# Altium footprint library ASI_CAN_Conv.PcbLib: 30 footprints (part 1 of 2)
Each footprint in its own frame and in the unit in brackets; x right, y up, seen from the top. Pads: shape width x height; smd on the part's side, far side on the other; paste and mask are expansions set on the pad; w line width, h text height; cw(c..) or ccw(c..) is an arc to the next point about the centre after c.
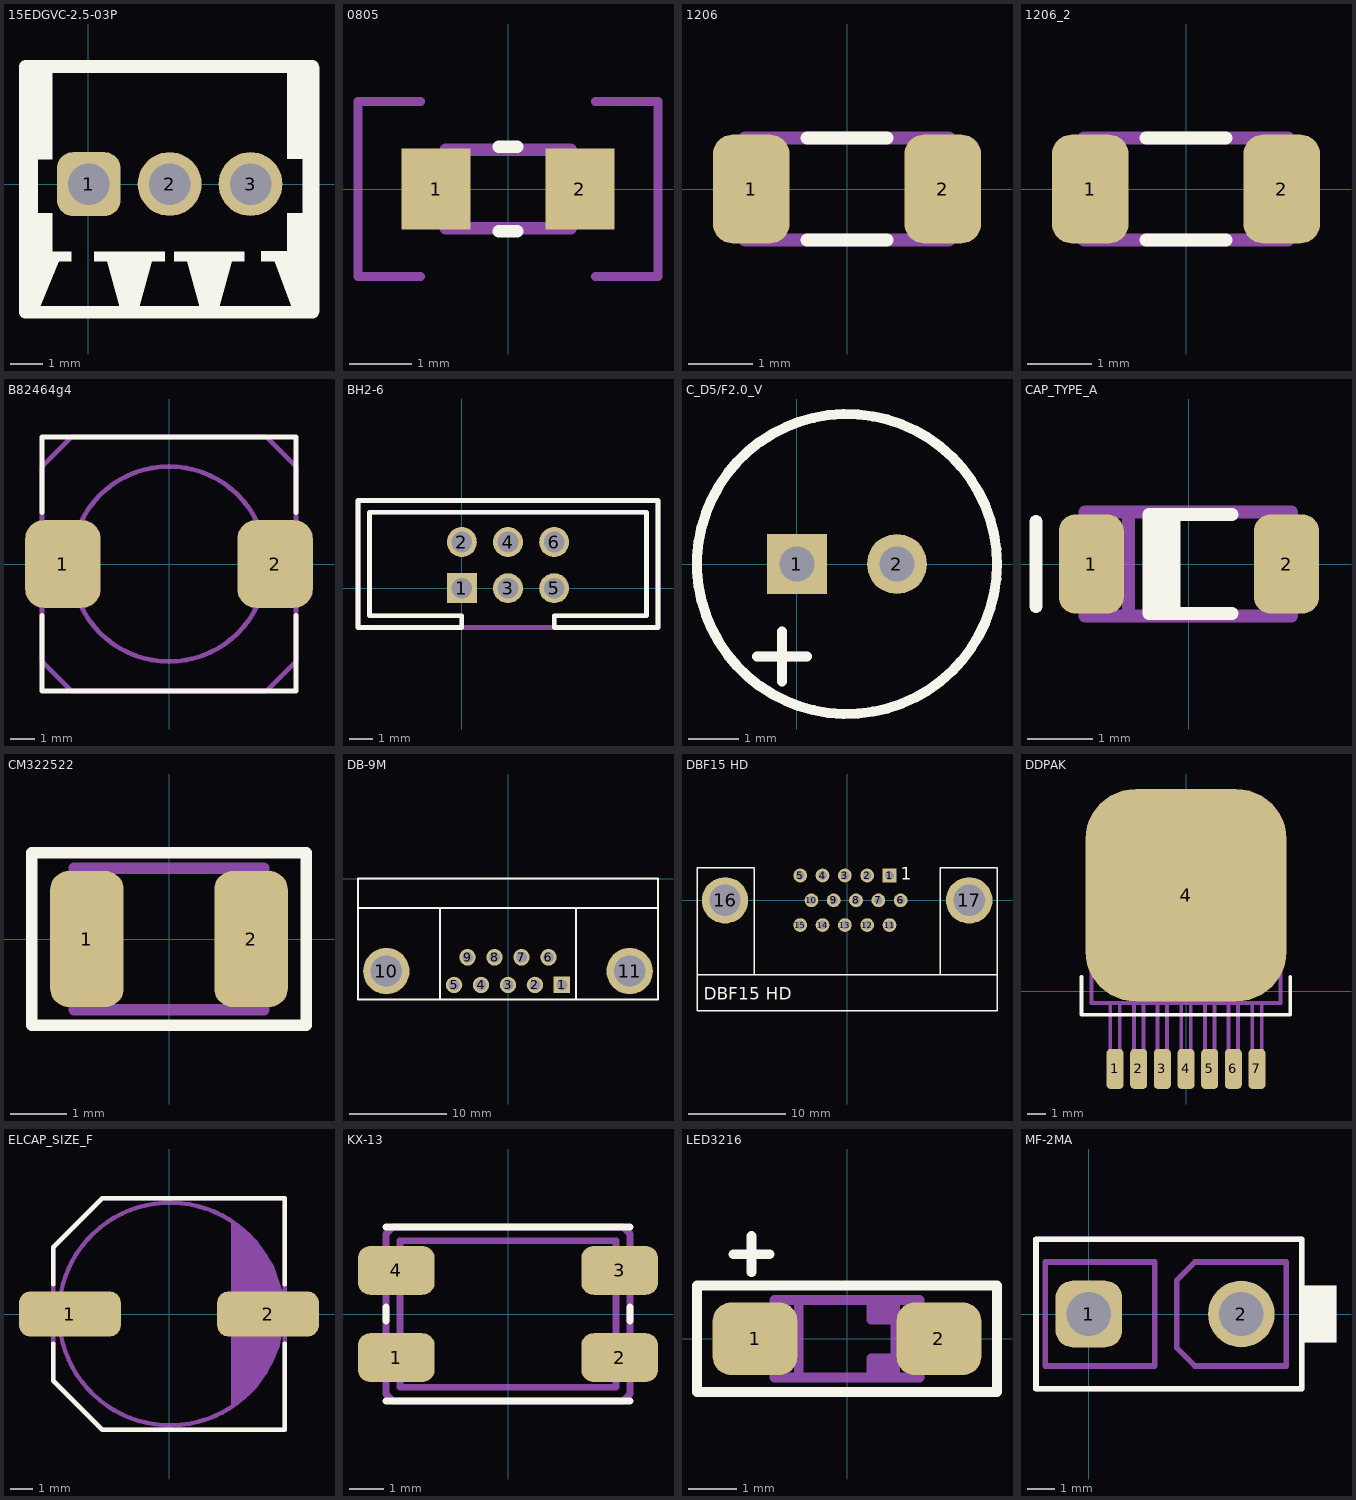
[diagram p0: the footprints below, top view; thin cyan lines are the x and y axes]

## 15EDGVC-2.5-03P [mm]
pads (3):
  rrect50% 2x2 hole 1.3: 1(0.01,0)
  round 2 hole 1.3: 2(2.545,0) 3(5.08,0)
Top Overlay:
  region: 6.233,3.683 6.233,0.787 6.715,0.787 6.716,-0.914 6.233,-0.914 6.233,-2.108 5.415,-2.108 5.415,-2.413 5.84,-2.413 6.437,-4.013 7.224,-4.013 7.224,3.683
  region: -1.133,3.708 -1.133,0.784 -1.583,0.784 -1.583,-0.916 -1.133,-0.916 -1.133,-2.116 -0.533,-2.116 -0.533,-2.416 -0.933,-2.416 -1.59,-4.013 -2.174,-4.013 -2.174,3.708
  region: 3.49,-3.835 3.09,-2.413 2.69,-2.413 2.69,-2.113 4.89,-2.113 4.89,-2.413 4.49,-2.413 4.1,-3.835
  region: 0.976,-3.835 0.585,-2.413 0.185,-2.413 0.185,-2.113 2.385,-2.113 2.385,-2.413 1.985,-2.413 1.585,-3.835
  lines w0.4: -1.971,-4.016 7.021,-4.016 ; -1.971,3.683 7.021,3.683
3D body "15edgvc-2.5_03P.stp": height 10.2, standoff -3.4, extent -2.175,-4.214 7.225,3.886

## 0805 [mm]
pads (2):
  rect 1.1x1.3 smd: 1(-1.15,0) 2(1.15,0)
Top Overlay:
  lines w0.2: -0.15,-0.675 0.15,-0.675 ; -0.15,0.675 0.15,0.675
Mechanical 1:
  lines w0.2: -1,-0.625 1,-0.625 1,0.627 -1,0.627 -1,-0.625
Mechanical 2:
  lines w0.15: -1.4,-1.4 -2.4,-1.4 -2.4,1.4 -1.4,1.4 ; 1.4,-1.4 2.4,-1.4 2.4,1.4 1.4,1.4
3D body "R0805.STEP": height 0.47, standoff 0, extent -1,-0.625 1,0.627

## 1206 [mm]
pads (2):
  rrect50% 1.2x1.7 smd: 1(-1.5,0) 2(1.5,0)
Top Overlay:
  lines w0.2: -0.625,-0.8 0.625,-0.8 ; -0.625,0.8 0.625,0.8
Mechanical 1:
  lines w0.2: -1.6,-0.8 -1.6,0.8 1.6,0.8 1.6,-0.8 -1.6,-0.8
3D body: height 0.6, standoff 0, extent -1.6,-0.8 1.6,0.8

## 1206_2 [mm]
pads (2):
  rrect50% 1.2x1.7 smd: 1(-1.5,0) 2(1.5,0)
Top Overlay:
  lines w0.2: -0.625,-0.8 0.625,-0.8 ; -0.625,0.8 0.625,0.8
Mechanical 1:
  lines w0.2: -1.6,-0.8 -1.6,0.8 1.6,0.8 1.6,-0.8 -1.6,-0.8
3D body: height 0.6, standoff 0, extent -1.6,-0.8 1.6,0.8

## B82464g4 [mm]
pads (2):
  rrect50% 3.1x3.6 smd: 1(-4.35,0) 2(4.35,0)
Top Overlay:
  lines w0.2: -5.2,-2.1 -5.2,-5.2 5.2,-5.2 5.2,-2.1 ; -5.2,2.1 -5.2,5.2 5.2,5.2 5.2,2.1
Mechanical 1:
  circle w0.2: c0,0 r4
  lines w0.2: -5.2,-4 -5.2,4 -4,5.2 4,5.2 5.2,4 5.2,-4 4,-5.2 -4,-5.2 -5.2,-4
3D body "User Library-B82464G4.step": height 4.81, standoff 0, extent -5.2,-5.2 5.2,5.2

## BH2-6 [mm]
pads (6):
  rect 1.3x1.3 hole 0.9: 1(0,0)
  round 1.3 hole 0.9: 2(0,2) 3(2,0) 4(2,2) 5(4,0) 6(4,2)
Top Overlay:
  lines w0.2: -4.5,-1.7 0,-1.7 0,-1.2 -4,-1.2 -4,3.3 8,3.3 8,-1.2 4,-1.2 4,-1.7 8.5,-1.7 8.5,3.8 -4.5,3.8 -4.5,-1.7
Mechanical 1:
  lines w0.2: 0,-1.7 0,-1.2 -4,-1.2 -4,3.3 8,3.3 8,-1.2 4,-1.2 4,-1.7 ; 0,-1.7 4,-1.7 ; 0,-1.7 -4.5,-1.7 -4.5,3.8 8.5,3.8 8.5,-1.7 4,-1.7 ; -0.2,-0.2 0.2,-0.2 0.2,0.2 -0.2,0.2 -0.2,-0.2 ; -0.2,1.8 0.2,1.8 0.2,2.2 -0.2,2.2 -0.2,1.8 ; 1.8,-0.2 2.2,-0.2 2.2,0.2 1.8,0.2 1.8,-0.2 ; 1.8,1.8 2.2,1.8 2.2,2.2 1.8,2.2 1.8,1.8 ; 3.8,-0.2 4.2,-0.2 4.2,0.2 3.8,0.2 3.8,-0.2 ; 3.8,1.8 4.2,1.8 4.2,2.2 3.8,2.2 3.8,1.8
3D body "878310628.stp": height 8.2, standoff -0.7, extent -2.286,-2.134 6.364,4.166

## C_D5/F2.0_V [mm]
pads (2):
  rect 1.2x1.2 hole 0.7: 1(0,0)
  round 1.2 hole 0.7: 2(2,0)
Top Overlay:
  circle w0.2: c1,0 r3
  lines w0.2: -0.8,-1.85 0.2,-1.85 ; -0.3,-2.35 -0.3,-1.35
Mechanical 1:
  circle w0.2: c1,0 r3
  lines w0.2: -0.8,-1.85 0.2,-1.85 ; -0.3,-2.35 -0.3,-1.35
3D body "Cap electro 5x11x2mm.STEP": height 11.28, standoff -3.52, extent -1.525,-2.551 3.525,2.5

## CAP_TYPE_A [mm]
pads (2):
  rrect50% 1x1.52 smd: 1(-1.5,0) 2(1.5,0)
Top Overlay:
  lines w0.2: -2.35,-0.65 -2.35,0.65 ; -0.43,-0.762 -0.43,0.762 ; -0.23,-0.762 -0.23,0.762 ; 0.659,-0.762 -0.611,-0.762 -0.611,0.762 0.659,0.762
Mechanical 1:
  lines w0.2: -0.925,-0.8 -0.925,0.8 ; -1.6,-0.8 1.574,-0.8 1.574,0.8 -1.6,0.8 -1.6,-0.8
3D body "A Case SMT Capacitor.STEP": height 1.58, standoff -0.02, extent -1.6,-0.8 1.574,0.8

## CM322522 [mm]
pads (2):
  rrect50% 1.3x2.4 smd: 1(-1.45,0) 2(1.45,0)
Top Overlay:
  lines w0.2: -2.425,-1.525 -2.425,1.525 2.425,1.525 2.425,-1.525 -2.425,-1.525
Mechanical 1:
  lines w0.2: -1.679,-1.25 -1.679,1.25 1.679,1.25 1.679,-1.25 -1.679,-1.25
3D body "cm322522.stp": height 2.32, standoff 0.02, extent -1.679,-1.25 1.679,1.25

## DB-9M [mm]
pads (11):
  rect 1.69x1.69 hole 1.1: 1(5.54,-10.92)
  round 1.69 hole 1.1: 2(2.77,-10.92) 3(0,-10.92) 4(-2.77,-10.92) 5(-5.54,-10.92) 6(4.155,-8.08) 7(1.385,-8.08) 8(-1.385,-8.08) 9(-4.155,-8.08)
  round 4.76 hole 3.2: 10(-12.495,-9.5) 11(12.495,-9.5)
Top Overlay:
  lines w0.2: -15.4,-3 15.4,-3 ; -7,-12.4 -7,-3 ; 7,-12.4 7,-3 ; -15.4,-12.4 15.4,-12.4 15.4,0 -15.4,0 -15.4,-12.4
3D body "User Library-DB9-Usa.step": height 12.77, standoff -4.1, extent -15.367,-12.37 15.443,5.93

## DBF15 HD [mm]
pads (17):
  rect 1.408x1.408 hole 0.9: 1(4.329,2.54)
  round 1.408 hole 0.9: 2(2.043,2.54) 3(-0.243,2.54) 4(-2.529,2.54) 5(-4.815,2.54) 6(5.472,0) 7(3.186,0) 8(0.9,0) 9(-1.386,0) 10(-3.672,0) 11(4.329,-2.54) 12(2.043,-2.54) 13(-0.243,-2.54) 14(-2.529,-2.54) 15(-4.815,-2.54)
  round 4.76 hole 3.2: 16(-12.522,0) 17(12.497,0)
Top Overlay:
  lines w0.152: -15.392,-7.645 -15.392,3.353 -9.525,3.353 -9.525,-7.62 ; 9.525,-7.62 9.525,3.353 15.342,3.353 15.342,-11.294 -15.392,-11.294 -15.392,-7.62 15.316,-7.62
  text "DBF15 HD" at -14.707,-10.185 h1.27
  text "1" at 5.48,2.095 h1.27
3D body "User Library-Connector, D-Sub, 15 pin HD, RA, Receptacle.step": height 12.27, standoff -3.77, extent -15.405,-17.678 15.405,3.422

## DDPAK [mm]
pads (8):
  rrect50% 0.91x2.16 smd: 1(-3.81,-4.16) 2(-2.54,-4.16) 3(-1.27,-4.16) 4(0,-4.16) 5(1.27,-4.16) 6(2.54,-4.16) 7(3.81,-4.16)
  rrect50% 10.8x11.41 smd: 4(0,5.16)
Top Overlay:
  lines w0.2: -5.61,0.782 -5.61,-1.25 5.59,-1.25 5.59,0.77
Mechanical 1:
  circle w0.2: c-3.825,0.7 r0.5
  lines w0.2: -4.064,-0.625 -4.064,-5.08 -3.556,-5.08 -3.556,-0.625 ; -2.794,-0.625 -2.794,-5.08 -2.286,-5.08 -2.286,-0.625 ; -1.524,-0.625 -1.524,-5.08 -1.016,-5.08 -1.016,-0.625 ; -0.254,-0.625 -0.254,-5.08 0.254,-5.08 0.254,-0.625 ; 1.016,-0.625 1.016,-5.08 1.524,-5.08 1.524,-0.625 ; 2.286,-0.625 2.286,-5.08 2.794,-5.08 2.794,-0.625 ; 3.556,-0.625 3.556,-5.08 4.064,-5.08 4.064,-0.625 ; -5.075,8.025 -5.075,8.625 -3.45,9.275 0,9.275 3.45,9.275 5.075,8.625 5.075,8.025 ; -5.075,8.025 5.075,8.025 ; -5.075,8.025 -5.075,-0.625 5.075,-0.625 5.075,8.025
3D body "SW3dPS-TO263-7-1.STEP": height 4.78, standoff -0.02, extent -5,-5.142 5,10.528

## ELCAP_SIZE_F [mm]
pads (2):
  rrect50% 4.57x2.03 smd: 1(-4.45,0) 2(4.45,0)
Top Overlay:
  lines w0.2: -5.2,-1.325 -5.2,-3 -3,-5.2 5.2,-5.2 5.2,-1.325 ; -5.2,1.325 -5.2,3 -3,5.2 5.2,5.2 5.2,1.325
Mechanical 1:
  circle w0.2: c0.055,0 r5
  region: 2.805,4.175 2.805,-4.25 3.429,-3.81 3.937,-3.302 4.445,-2.54 4.953,-1.524 5.08,-0.762 5.08,1.016 4.699,2.159 3.937,3.302 2.855,4.2
  lines w0.2: -5.2,-3 -5.2,3 -3,5.2 5.2,5.2 5.2,-5.2 -3,-5.2 -5.2,-3
3D body "User Library-CC1010.step": height 10.41, standoff 0, extent -5.5,-5.2 5.5,5.2

## KX-13 [mm]
pads (4):
  rrect50% 2.2x1.4 smd: 1(-3.2,-1.25) 2(3.2,-1.25) 3(3.2,1.25) 4(-3.2,1.25)
Top Overlay:
  lines w0.2: -3.5,-2.5 3.5,-2.5 ; -3.5,-0.2 -3.5,0.2 ; -3.5,2.5 3.5,2.5 ; 3.5,-0.2 3.5,0.2
Mechanical 1:
  lines w0.2: -3.5,-2.3 -3.5,2.3 -3.3,2.5 3.3,2.5 3.5,2.3 3.5,-2.3 3.3,-2.5 -3.3,-2.5 -3.5,-2.3 ; -3.1,-2.1 -3.1,2.1 3.1,2.1 3.1,-2.1 -3.1,-2.1
3D body "User Library-GeyerElectronics_KX13.step": height 1.31, standoff 0, extent -3.5,-2.5 3.5,2.5

## LED3216 [mm]
pads (2):
  rrect50% 1.75x1.5 smd: 1(-1.9,0) 2(1.9,0)
Top Overlay:
  lines w0.2: -2.35,1.75 -1.6,1.75 ; -1.975,1.375 -1.975,2.125 ; -3.1,-1.1 -3.1,1.1 3.1,1.1 3.1,-1.1 -3.1,-1.1
Mechanical 1:
  lines w0.2: -1,-0.8 -1,0.8 ; 0.5,-0.8 0.5,-0.5 0.5,-0.4 1,-0.4 ; 0.5,-0.6 1,-0.6 ; 0.5,0.6 1,0.6 ; 0.5,0.8 0.5,0.4 1,0.4 ; 1,-0.8 1,0.8 ; -1.5,-0.8 1.5,-0.8 1.5,0.8 -1.5,0.8 -1.5,-0.8
3D body "User Library-KPC-3216ID.step": height 0, standoff -1.1, extent -1.6,-0.8 1.6,0.8

## MF-2MA [mm]
pads (2):
  rrect50% 2.4x2.4 hole 1.6: 1(0,0)
  round 2.4 hole 1.6: 2(5.5,0)
Top Overlay:
  region: 7.7,1.016 8.915,1.016 8.915,-1.016 7.7,-1.016
  lines w0.2: -1.905,-2.7 7.675,-2.7 7.675,2.7 -1.905,2.7 -1.905,-2.692
Mechanical 1:
  region: 7.7,1.016 8.915,1.016 8.915,-1.016 7.7,-1.016
  lines w0.2: -1.905,-2.7 -1.905,2.7 7.675,2.7 7.675,-2.7 -1.905,-2.7 ; -1.575,-1.875 2.375,-1.875 2.375,1.875 -1.575,1.875 -1.575,-1.875 ; 3.175,-1.225 3.825,-1.875 7.125,-1.875 7.125,1.875 3.825,1.875 3.175,1.225 3.175,-1.225
3D body "Mini-Fit_2.stp": height 12.8, standoff -3.5, extent -2.033,-3.1 8.967,3.1